# EAGLE library part TLV3502 (library borkedlabs-opamps)
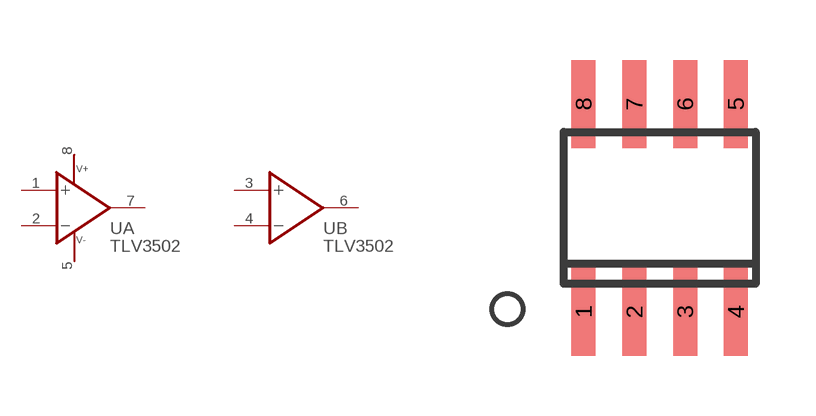
[diagram p2: symbol with the pads of SOIC-08; footprint SOIC-08]

Designator prefix U; gates A=OPAMP_SINGLE B=OPAMP_NO_PWR

## TLV3502  [SOIC-08]
1  A:+
2  A:-
3  B:+
4  B:-
5  A:V-
6  B:OUT
7  A:OUT
8  A:V+

## Footprint SOIC-08 (pad centres in mm)
D (R-PDSO-G8) Plastic Small Outline Package Source: http://focus.ti.com/lit/ds/symlink/sn65als176.pdf
smd 0.6 x 2.2: 1 -1.905,-2.6; 2 -0.635,-2.6; 3 0.635,-2.6; 4 1.905,-2.6; 5 1.905,2.6; 6 0.635,2.6; 7 -0.635,2.6; 8 -1.905,2.6